# EAGLE library part BA_HEADER_8P (library con-misc)
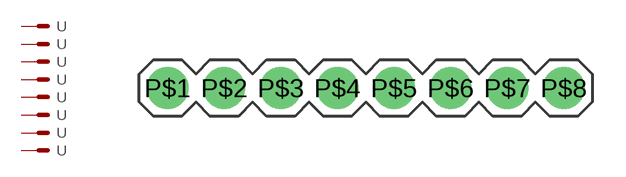
[diagram p2: symbol with the pads of BA_HEADER_8P; footprint BA_HEADER_8P]

Designator prefix -

## BA_HEADER_8P  [BA_HEADER_8P]
P$1  S  pas
P$2  S1  pas
P$3  S2  pas
P$4  S3  pas
P$5  S4  pas
P$6  S5  pas
P$7  S6  pas
P$8  S7  pas

## Footprint BA_HEADER_8P (pad centres in mm)
drill 1.06 pad 1.88: P$1 -8.89,0; P$2 -6.35,0; P$3 -3.81,0; P$4 -1.27,0; P$5 1.27,0; P$6 3.81,0; P$7 6.35,0; P$8 8.89,0